# Altium schematic symbol library SMBJ14CA.SchLib: 2 symbols
Pins are listed as number, name and electrical type; pins without a type are passive.

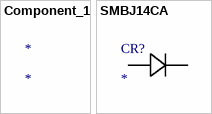
[diagram p0: symbols Component_1 to SMBJ14CA]

## Component_1
designator *

## SMBJ14CA
designator CR?
No Description Available; Mfr_Name: Littelfuse Inc
footprint SMBJSeries_LTF
pins: 1, 2